# Altium footprint library SRP7028A-4R7M.PcbLib: 1 footprints
Each footprint in its own frame and in the unit in brackets; x right, y up, seen from the top. Pads: shape width x height; smd on the part's side, far side on the other; paste and mask are expansions set on the pad; w line width, h text height; cw(c..) or ccw(c..) is an arc to the next point about the centre after c.
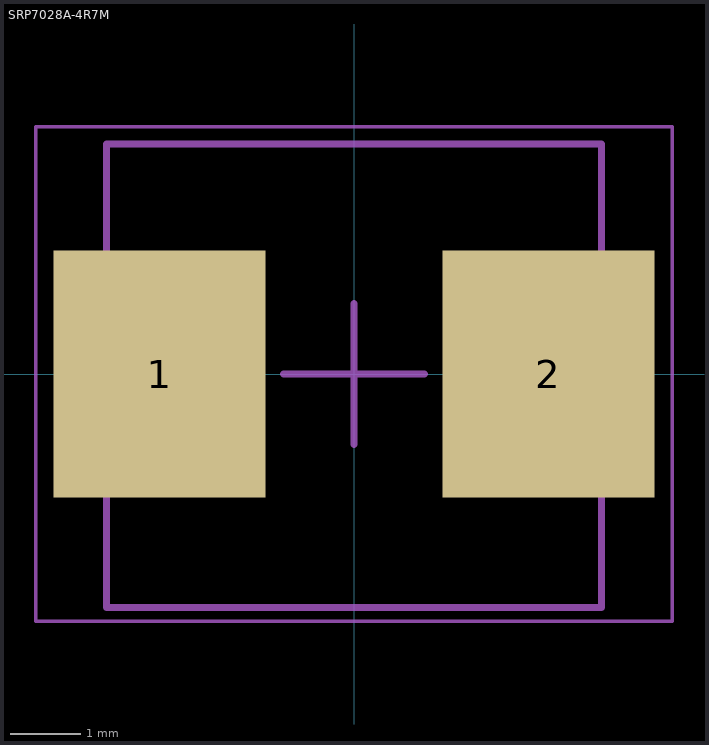
[diagram p0: the footprint, top view; thin cyan lines are the x and y axes]

## SRP7028A-4R7M [mm]
pads (2):
  rect 3x3.5 smd: 1(-2.75,0) 2(2.75,0)
Mechanical 1:
  lines w0.1: -3.5,-3.3 -3.5,3.25 3.5,3.25 3.5,-3.3 -3.5,-3.3
  text ".Designator" at -3.175,-0.258 h0.65
Mechanical 2:
  lines w0.05: -4.5,-3.5 4.5,-3.5 4.5,3.5 -4.5,3.5 -4.5,-3.5
  lines w0.1: -1,0 1,0 ; 0,-1 0,1
3D body "SRP 7028A series.stp": height 2.81, standoff -0.02, extent -3.452,-3.349 3.448,3.251